# EAGLE library part MTS62C19A (library radu-collected)
Microchip MTS62C19A Stepper driver
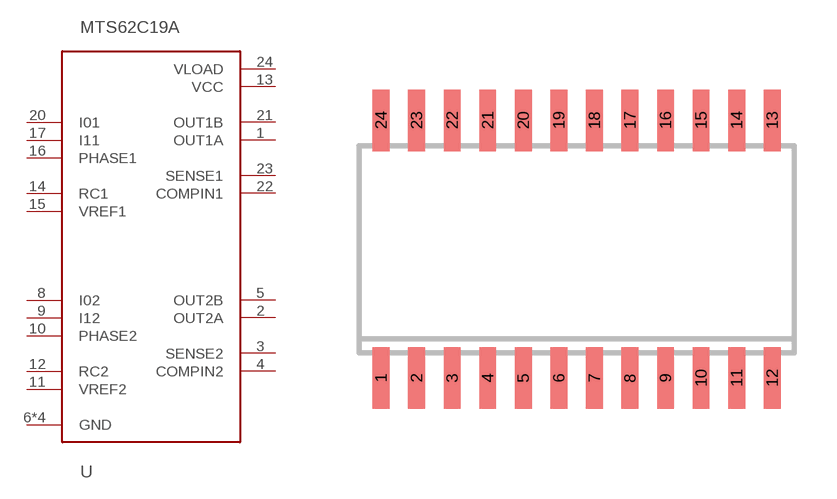
[diagram p15: symbol with the pads of SO24W; footprint SO24W]

Designator prefix U

## MTS62C19A  [SO24W]
1  OUT1A  out
2  OUT2A  out
3  SENSE2  pas
4  COMPIN2  pas
5  OUT2B  out
6  GND  pwr
7  GND  pwr
8  I02  in
9  I12  in
10  PHASE2  in
11  VREF2  pas
12  RC2  pas
13  VCC  pwr
14  RC1  pas
15  VREF1  pas
16  PHASE1  in
17  I11  in
18  GND  pwr
19  GND  pwr
20  I01  in
21  OUT1B  out
22  COMPIN1  pas
23  SENSE1  pas
24  VLOAD  pwr

## Footprint SO24W (pad centres in mm)
SMALL OUTLINE INTEGRATED CIRCUIT wide body 7.5 mm/JEDEC MO-119AA
smd 0.6 x 2.2: 1 -6.985,-4.6; 2 -5.715,-4.6; 3 -4.445,-4.6; 4 -3.175,-4.6; 5 -1.905,-4.6; 6 -0.635,-4.6; 7 0.635,-4.6; 8 1.905,-4.6; 9 3.175,-4.6; 10 4.445,-4.6; 11 5.715,-4.6; 12 6.985,-4.6; 13 6.985,4.6; 14 5.715,4.6; 15 4.445,4.6; 16 3.175,4.6; 17 1.905,4.6; 18 0.635,4.6; 19 -0.635,4.6; 20 -1.905,4.6; 21 -3.175,4.6; 22 -4.445,4.6; 23 -5.715,4.6; 24 -6.985,4.6